# Altium footprint library 2EHDVC-04P.PcbLib: 1 footprints
Each footprint in its own frame and in the unit in brackets; x right, y up, seen from the top. Pads: shape width x height; smd on the part's side, far side on the other; paste and mask are expansions set on the pad; w line width, h text height; cw(c..) or ccw(c..) is an arc to the next point about the centre after c.
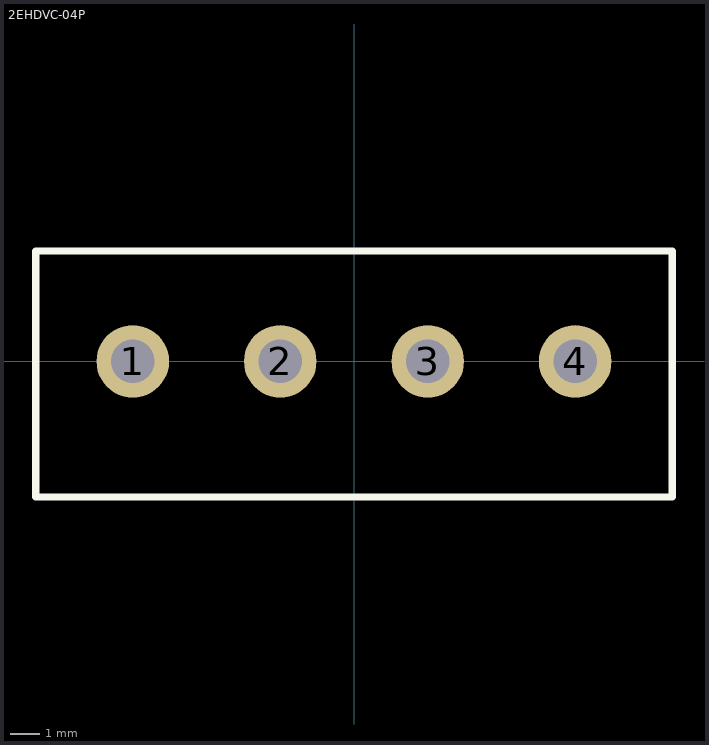
[diagram p0: the footprint, top view; thin cyan lines are the x and y axes]

## 2EHDVC-04P [mm] "2EHDVC-04P"
pads (4):
  round 2.5 hole 1.5: 1(-7.62,0) 2(-2.54,0) 3(2.54,0) 4(7.62,0)
Top Overlay:
  lines w0.254: -10.96,-4.67 10.96,-4.67 10.96,3.8 -10.96,3.8 -10.96,-4.67
3D body: height 8.6, standoff 0, extent -10.96,-4.67 10.96,3.8